# EAGLE library part 1-1825059-7 (library Switches)
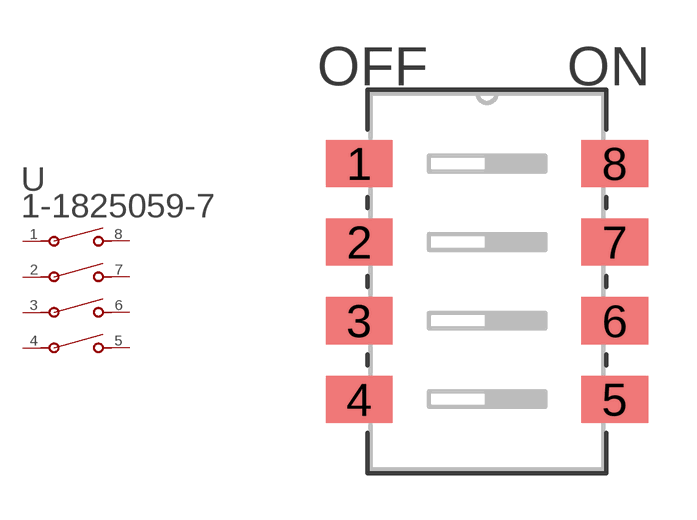
[diagram p15: symbol with the pads of SWSO8_325X138P100; footprint SWSO8_325X138P100]

Designator prefix U

## 1-1825059-7 (BUILT_BY: EMA_UL_Team; CATEGORY: DIP & SIP Switches; COPYRIGHT: Copyright (C) 2016 Accelerated Designs. All rights reserved; DESCRIPTION: ADF04ST04=DIP SWT,FLUSH,SMT-GW; MANUFACTURER_PART_NUMBER: 1-1825059-7; PART_STATUS: active; SERIES: Alcoswitch DIP,Alcoswitch DIP ADF; VENDOR: TE Connectivity)  [SWSO8_325X138P100]
1  1  pas
2  2  pas
3  3  pas
4  4  pas
5  5  pas
6  6  pas
7  7  pas
8  8  pas

## Footprint SWSO8_325X138P100 (pad centres in mm)
smd 2.159 x 1.524: 1 -4.128,3.81; 2 -4.128,1.27; 3 -4.128,-1.27; 4 -4.128,-3.81; 5 4.128,-3.81; 6 4.128,-1.27; 7 4.128,1.27; 8 4.128,3.81